# Altium schematic symbol library Resistors.SchLib: 32 symbols
Pins are listed as number, name and electrical type; pins without a type are passive.

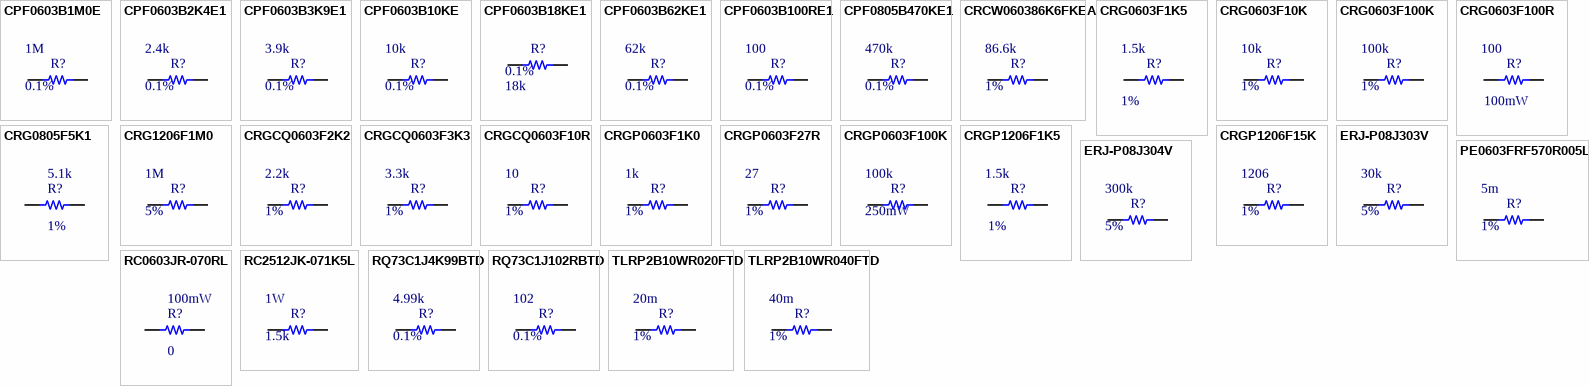
[diagram p0: symbols CPF0603B1M0E to TLRP2B10WR040FTD]

## CPF0603B1M0E
designator R?  Resistance: 1M  Tolerance: 0.1%  (hidden comment: *)
1 MOhms ±0.1% 0.063W, 1/16W Chip Resistor 0603 (1608 Metric) Thin Film; Power Rating: 62.5mW; Temperature Coefficient: 25ppm/c; Case Code: 0603
footprint 0603 (0603 footprint for various passives)
pins: 1, 2

## CPF0603B2K4E1
designator R?  Tolerance: 0.1%  Resistance: 2.4k  (hidden comment: *)
2.4 kOhms ±0.1% 0.063W, 1/16W Chip Resistor 0603 (1608 Metric) Thin Film; Power Rating: 62.5mW; Temperature Coefficient: 25ppm/c; Case Code: 0603
footprint 0603 (0603 footprint for various passives)
pins: 1, 2

## CPF0603B3K9E1
designator R?  Tolerance: 0.1%  Resistance: 3.9k  (hidden comment: *)
3.9 kOhms ±0.1% 0.063W, 1/16W Chip Resistor 0603 (1608 Metric) Thin Film; Power Rating: 62.5mW; Temperature Coefficient: 25ppm/c; Case Code: 0603
footprint 0603 (0603 footprint for various passives)
pins: 1, 2

## CPF0603B10KE
designator R?  Resistance: 10k  Tolerance: 0.1%  (hidden comment: *)
10 kOhms ±0.1% 0.063W, 1/16W Chip Resistor 0603 (1608 Metric) Thin Film; Temperature Coefficient: 25ppm/c; Power Rating: 62.5mW; Case Code: 0603
footprint 0603 (0603 footprint for various passives)
pins: 1, 2

## CPF0603B18KE1
designator R?  Resistance: 18k  Tolerance: 0.1%  (hidden comment: *)
18 kOhms ±0.1% 0.063W, 1/16W Chip Resistor 0603 (1608 Metric) Thin Film; Power Rating: 62.5mW; Temperature Coefficient: 25ppm/c; Case Code: 0603
footprint 0603 (0603 footprint for various passives)
pins: 1, 2

## CPF0603B62KE1
designator R?  Tolerance: 0.1%  Resistance: 62k  (hidden comment: *)
62 kOhms ±0.1% 0.063W, 1/16W Chip Resistor 0603 (1608 Metric) Thin Film; Power Rating: 62.5mW; Temperature Coefficient: 25ppm/c; Case Code: 0603
footprint 0603 (0603 footprint for various passives)
pins: 1, 2

## CPF0603B100RE1
designator R?  Tolerance: 0.1%  Resistance: 100  (hidden comment: *)
100 Ohms ±0.1% 0.063W, 1/16W Chip Resistor 0603 (1608 Metric) Thin Film; Power Rating: 62.5mW; Temperature Coefficient: 25ppm/c; Case Code: 0603
footprint 0603 (0603 footprint for various passives)
pins: 1, 2

## CPF0805B470KE1
designator R?  Tolerance: 0.1%  Resistance: 470k  (hidden comment: *)
470 kOhms ±0.1% 0.1W, 1/10W Chip Resistor 0805 (2012 Metric) Thin Film; Power Rating: 62.5mW; Temperature Coefficient: 25ppm/c; Case Code: 0805
footprint 0805 (Footprint for various 0805 passives)
pins: 1, 2

## CRCW060386K6FKEA
designator R?  Tolerance: 1%  Resistance: 86.6k  (hidden comment: *)
86.6 kOhms ±1% 0.125W, 1/8W Chip Resistor 0603 (1608 Metric) Automotive AEC-Q200 Thick Film; Power Rating: 125mW; Temperature Coefficient: 200ppm/c; Case Code: 0603
footprint 0603 (0603 footprint for various passives)
pins: 1, 2

## CRG0603F1K5
designator R?  Tolerance: 1%  Resistance: 1.5k  (hidden comment: *)
1.5 kOhms ±1% 0.1W, 1/10W Chip Resistor 0603 (1608 Metric) Thick Film; Temperature Coefficient: 100ppm/c; Power Rating: 100mW; Case Code: 0603
footprint 0603 (0603 footprint for various passives)
pins: 1, 2

## CRG0603F10K
designator R?  Tolerance: 1%  Resistance: 10k  (hidden comment: *)
10 kOhms ±1% 0.1W, 1/10W Chip Resistor 0603 (1608 Metric) Thick Film; Power Rating: 100mW; Temperature Coefficient: 100ppm/c; Case Code: 0603
footprint 0603 (0603 footprint for various passives)
pins: 1, 2

## CRG0603F100K
designator R?  Tolerance: 1%  Resistance: 100k  (hidden comment: *)
100 kOhms ±1% 0.1W, 1/10W Chip Resistor 0603 (1608 Metric) Thick Film; Power Rating: 100mW; Temperature Coefficient: 100ppm/c; Case Code: 0603
footprint 0603 (0603 footprint for various passives)
pins: 1, 2

## CRG0603F100R
designator R?  Power Rating: 100mW  Resistance: 100  (hidden comment: *)
100 Ohms ±1% 0.1W, 1/10W Chip Resistor 0603 (1608 Metric) Thick Film; Temperature Coefficient: 100ppm/c; Tolerance: 1%; Case Code: 0603
footprint 0603 (0603 footprint for various passives)
pins: 1, 2

## CRG0805F5K1
designator R?  Tolerance: 1%  Resistance: 5.1k  (hidden comment: *)
5.1 kOhms ±1% 0.125W, 1/8W Chip Resistor 0805 (2012 Metric) Thick Film; Power Rating: 125mW; Temperature Coefficient: 100ppm/c; Case Code: 0805
footprint 0805 (Footprint for various 0805 passives)
pins: 1, 2

## CRG1206F1M0
designator R?  Tolerance: 5%  Resistance: 1M  (hidden comment: *)
1 MOhms ±1% 0.25W, 1/4W Chip Resistor 1206 (3216 Metric) Thick Film; Power Rating: 250mW; Temperature Coefficient: 200ppm/c; Case Code: 1206
footprint 1206 (1206 footprint for passives, imperial)
pins: 1, 2

## CRGCQ0603F2K2
designator R?  Tolerance: 1%  Resistance: 2.2k  (hidden comment: *)
2.2 kOhms ±1% 0.1W, 1/10W Chip Resistor 0603 (1608 Metric) Automotive AEC-Q200, Moisture Resistant Thick Film; Power Rating: 100mW; Temperature Coefficient: 100ppm/c; Case Code: 0603
footprint 0603 (0603 footprint for various passives)
pins: 1, 2

## CRGCQ0603F3K3
designator R?  Tolerance: 1%  Resistance: 3.3k  (hidden comment: *)
3.3 kOhms ±1% 0.1W, 1/10W Chip Resistor 0603 (1608 Metric) Automotive AEC-Q200, Moisture Resistant Thick Film; Power Rating: 100mW; Temperature Coefficient: 100ppm/c; Case Code: 0603
footprint 0603 (0603 footprint for various passives)
pins: 1, 2

## CRGCQ0603F10R
designator R?  Tolerance: 1%  Resistance: 10  (hidden comment: *)
10 Ohms ±1% 0.1W, 1/10W Chip Resistor 0603 (1608 Metric) Automotive AEC-Q200, Moisture Resistant Thick Film; Power Rating: 100mW; Temperature Coefficient: 400ppm/c; Case Code: 0603
footprint 0603 (0603 footprint for various passives)
pins: 1, 2

## CRGP0603F1K0
designator R?  Tolerance: 1%  Resistance: 1k  (hidden comment: *)
1 kOhms ±1% 0.25W, 1/4W Chip Resistor 0603 (1608 Metric) Automotive AEC-Q200, Pulse Withstanding Thick Film; Power Rating: 250mW; Temperature Coefficient: 100ppm/c; Case Code: 0603
footprint 0603 (0603 footprint for various passives)
pins: 1, 2

## CRGP0603F27R
designator R?  Tolerance: 1%  Resistance: 27  (hidden comment: *)
27 Ohms ±1% 0.25W, 1/4W Chip Resistor 0603 (1608 Metric) Automotive AEC-Q200, Pulse Withstanding Thick Film; Power Rating: 100mW; Temperature Coefficient: 100ppm/c; Case Code: 0603
footprint 0603 (0603 footprint for various passives)
pins: 1, 2

## CRGP0603F100K
designator R?  Power Rating: 250mW  Resistance: 100k  (hidden comment: *)
100 kOhms ±1% 0.25W, 1/4W Chip Resistor 0603 (1608 Metric) Automotive AEC-Q200, Pulse Withstanding Thick Film; Temperature Coefficient: 100ppm/c; Case Code: 0603; Tolerance: 1%
footprint 0603 (0603 footprint for various passives)
pins: 1, 2

## CRGP1206F1K5
designator R?  Tolerance: 1%  Resistance: 1.5k  (hidden comment: *)
1.5 kOhms ±1% 0.5W, 1/2W Chip Resistor 1206 (3216 Metric) Automotive AEC-Q200, Pulse Withstanding Thick Film; Power Rating: 500mW; Temperature Coefficient: 100ppm/c; Case Code: 1206
footprint 1206 (1206 footprint for passives, imperial)
pins: 1, 2

## CRGP1206F15K
designator R?  Tolerance: 1%  Case Code: 1206  (hidden comment: *)
15 kOhms ±1% 0.5W, 1/2W Chip Resistor 1206 (3216 Metric) Automotive AEC-Q200, Pulse Withstanding Thick Film; Power Rating: 500mW; Resistance: 15k; Temperature Coefficient: 100ppm/c
footprint 1206 (1206 footprint for passives, imperial)
pins: 1, 2

## ERJ-P08J303V
designator R?  Tolerance: 5%  Resistance: 30k  (hidden comment: *)
30 kOhms ±5% 0.667W, 2/3W Chip Resistor 1206 (3216 Metric) Automotive AEC-Q200, Pulse Withstanding Thick Film; Power Rating: 667mW; Temperature Coefficient: 200ppm/c; Case Code: 1206
footprint 1206 (1206 footprint for passives, imperial)
pins: 1, 2

## ERJ-P08J304V
designator R?  Resistance: 300k  Tolerance: 5%  (hidden comment: *)
300 kOhms ±5% 0.667W, 2/3W Chip Resistor 1206 (3216 Metric) Automotive AEC-Q200, Pulse Withstanding Thick Film; Power Rating: 667mW; Temperature Coefficient: 200ppm/c; Case Code: 1206
footprint 1206 (1206 footprint for passives, imperial)
pins: 1, 2

## PE0603FRF570R005L
designator R?  Tolerance: 1%  Resistance: 5m  (hidden comment: *)
5 mOhms ±1% 0.5W, 1/2W Chip Resistor 0603 (1608 Metric) Automotive AEC-Q200, Current Sense Metal Film; Power Rating: 500mW; Case Code: 0603
footprint 0603 (0603 footprint for various passives)
pins: 1, 2

## RC0603JR-070RL
designator R?  Power Rating: 100mW  Resistance: 0  (hidden comment: *)
0 Ohms Jumper 0.1W, 1/10W Chip Resistor 0603 (1608 Metric) Moisture Resistant Thick Film; Temperature Coefficient: 0ppm/c; Tolerance: 0%; Case Code: 0603
footprint 0603 (0603 footprint for various passives)
pins: 1, 2

## RC2512JK-071K5L
designator R?  Resistance: 1.5k  Power Rating: 1W  (hidden comment: *)
1.5 kOhms ±5% 1W Chip Resistor 2512 (6332 Metric) Moisture Resistant Thick Film; Temperature Coefficient: 100ppm/c; Case Code: 2512; Tolerance: 5%
footprint 2512 (footprint for 2512 passives)
pins: 1, 2

## RQ73C1J4K99BTD
designator R?  Tolerance: 0.1%  Resistance: 4.99k  (hidden comment: *)
4.99 kOhms ±0.1% 0.167W, 1/6W Chip Resistor 0603 (1608 Metric) Anti-Sulfur, Automotive AEC-Q200 Thin Film; Power Rating: 166mW; Temperature Coefficient: 10ppm/c; Case Code: 0603
footprint 0603 (0603 footprint for various passives)
pins: 1, 2

## RQ73C1J102RBTD
designator R?  Tolerance: 0.1%  Resistance: 102  (hidden comment: *)
102 Ohms ±0.1% 0.167W, 1/6W Chip Resistor 0603 (1608 Metric) Anti-Sulfur, Automotive AEC-Q200 Thin Film; Power Rating: 166mW; Temperature Coefficient: 10ppm/c; Case Code: 0603
footprint 0603 (0603 footprint for various passives)
pins: 1, 2

## TLRP2B10WR020FTD
designator R?  Tolerance: 1%  Resistance: 20m  (hidden comment: *)
20 mOhms ±1% 1W Chip Resistor 1206 (3216 Metric) Anti-Sulfur, Automotive AEC-Q200, Current Sense Metal Element; Temperature Coefficient: 75ppm/c; Power Rating: 1W; Case Code: 1206
pins: 1, 2

## TLRP2B10WR040FTD
designator R?  Tolerance: 1%  Resistance: 40m  (hidden comment: *)
40 mOhms ±1% 1W Chip Resistor 1206 (3216 Metric) Anti-Sulfur, Automotive AEC-Q200, Current Sense Metal Element; Temperature Coefficient: 75ppm/c; Power Rating: 1W; Case Code: 1206
footprint 1206 (1206 footprint for passives, imperial)
pins: 1, 2